# Altium schematic symbol library DISP,LED,7Seg,0.56_,RED,Thru.Schlib: 1 symbol
Pins are listed as number, name and electrical type; pins without a type are passive.

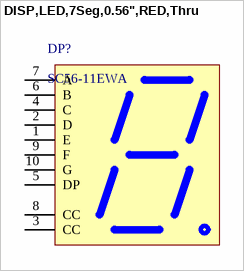
[diagram p0: symbol DISP,LED,7Seg,0.56",RED,Thru]

## DISP,LED,7Seg,0.56",RED,Thru
designator DP?, comment SC56-11EWA
Display Modules - LED Character and Numeric Red 7-Segment 1 Character Common Cathode 2V 20mA 0.750" H x 0.500" W x 0.315" D (19.05mm x 12.70mm x 8.00mm) 10-DIP (0.600", 15.24mm)
pins: 1 E, 2 D, 3 CC, 4 C, 5 DP, 6 B, 7 A, 8 CC, 9 F, 10 G